# Altium schematic symbol library Components - 17.07.26 - 23.14.SchLib: 1 symbol
Pins are listed as number, name and electrical type; pins without a type are passive.

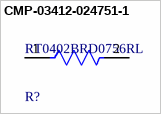
[diagram p0: symbol CMP-03412-024751-1]

## CMP-03412-024751-1
designator R?, comment RT0402BRD0756RL
RES SMD 56 OHM 0.1% 1/16W 0402; Manufacturer: Yageo; Power Rating: 0.063W; Resistance: 56Ω; Tolerance: 0.001; Value: 56Ω; Voltage Rating: 50V; Temperature Coefficient: 25 ppm/°C; Octopart: https://octopart.com/rt0402brd0756rl-yageo-1266468; Footprint Url: http://www.yageo.com/exep/pages/download/literatures/PYu-R_Mount_10.pdf; Mouser Description: Thin Film Resistors 1/16W 56 ohm .1% 25ppm; ComponentLink2URL: http://www.yageo.com/documents/recent/PYu-RT_1-to-0.01_RoHS_L_9.pdf; Category: Res; Temperature Range Low: -55°C; Device Class L2: Resistors; Series: RT; Digikey Description: RES SMD 56 OHM 0.1% 1/16W 0402; Device Class L3: Chip SMD Resistors; Composition: Thin Film; ComponentLink2Description: Datasheet; Temperature: -55°C to +155°C; Manufacturer Part Number: RT0402BRD0756RL; RoHS: TRUE; Lead Free: Yes; Package: RT0402; Temperature Range High: +155°C; Height: 0.35mm; Device Class L1: Passive Components; Ipc Land Pattern Name: RESC10050X30; Automotive: No
footprint FP-RT0402-IPC_C
footprint FP-RT0402-IPC_A
footprint FP-RT0402-MFG
footprint FP-RT0402-IPC_B
pins: 1, 2